# Altium schematic symbol library SRN8040-R50Y.SchLib: 1 symbol
Pins are listed as number, name and electrical type; pins without a type are passive.

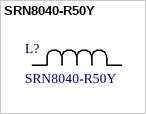
[diagram p0: symbol SRN8040-R50Y]

## SRN8040-R50Y
designator L?
No Description Available; Manufacturer_Name: Bourns Electronics; Copyright: Copyright (C) 2026 Ultra Librarian. All rights reserved.; Manufacturer_Part_Number: SRN8040-R50Y
pins: 1, 2